# Altium integrated library 455-2271-ND-Batt-Conn.IntLib: 1 symbol
Pins are listed as number, name and electrical type; pins without a type are passive.

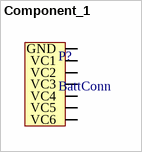
[diagram p0: symbol Component_1]

## Component_1
designator P?, comment BattConn
footprint 6sBattConn (6s Molex Battery Connector)
pins: GND, VC1, VC2, VC3, VC4, VC5, VC6